# Altium schematic symbol library test-tp_jumper.SchLib: 12 symbols
Pins are listed as number, name and electrical type; pins without a type are passive.

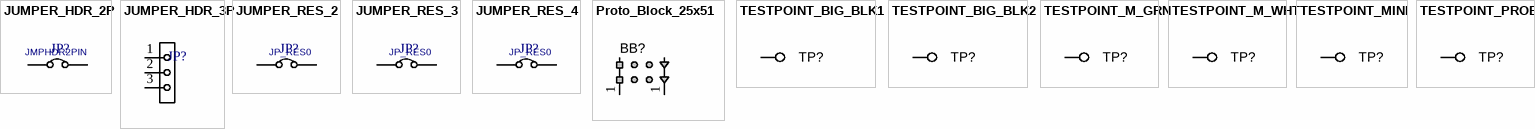
[diagram p0: symbols JUMPER_HDR_2P to TESTPOINT_PROBE]

## JUMPER_HDR_2P
designator JP?, comment JMPHDR2PIN
JUMPER, HEADER 2PIN; MANF: MANF; MANF_P#: MANF_P#; VALUE: JMPHDR2PIN
footprint JP_2 (Jumper Header 2.54mm Pitch, Vertical)
footprint JP_2_BLU (Jumper Header 2.54mm Pitch, Vertical, BLUE)
footprint JP_2_BLK (Jumper Header 2.54mm Pitch, Vertical, BLACK)
footprint JP_2_RED (Jumper Header 2.54mm Pitch, Vertical, RED)
footprint JP_2_GRN (Jumper Header 2.54mm Pitch, Vertical, GREEN)
pins: 1, 2

## JUMPER_HDR_3P
designator JP?, comment JMPHDR3PIN  (value not drawn)
JUMPER, HEADER 3PIN; MANF: MANF; MANF_P#: MANF_P#; VALUE: JMPHDR3PIN
footprint JP_3 (Jumper Header 2.54mm Pitch, 3PIN, Vertical)
pins: 1, 2, 3

## JUMPER_RES_2
designator JP?, comment JP_RES0  (net tie)
JUMPER, RESISTOR 0 Ohm; MANF: MANF; MANF_P#: MANF_P#; VALUE: JP_RES0
footprint JP_RES0_AX2 (JUMPER, RESISTOR 0 Ohm 1/8Watt, Axial 0.24Inch)
pins: 1, 2

## JUMPER_RES_3
designator JP?, comment JP_RES0  (net tie)
JUMPER, RESISTOR 0 Ohm; MANF: MANF; MANF_P#: MANF_P#; VALUE: JP_RES0
footprint JP_RES0_AX3 (JUMPER, RESISTOR 0 Ohm 1/8Watt, Axial0.3Inch)
pins: 1, 2

## JUMPER_RES_4
designator JP?, comment JP_RES0  (net tie)
JUMPER, RESISTOR 0 Ohm; MANF: MANF; MANF_P#: MANF_P#; VALUE: JP_RES0
footprint JP_RES0_AX4 (0 Ohm Jumper Resistor)
pins: 1, 2

## Proto_Block_25x51
designator BB?  (value not drawn)  (no BOM)
MANF: MANF; MANF_P#: MANF_P#; VALUE: VALUE
footprint BreadBoard_25x51 (Small 1"x2" breadboard section)
pins: 1, 1 0

## TESTPOINT_BIG_BLK1
designator TP?  (value not drawn)  (no BOM)
TEST POINT; MANF: MANF; MANF_P#: MANF_P#; VALUE: VALUE
footprint TPTHD_C_BLK1 (Thru-hole test point loop)
pins: 1

## TESTPOINT_BIG_BLK2
designator TP?  (value not drawn)  (no BOM)
TEST POINT; MANF: MANF; MANF_P#: MANF_P#; VALUE: VALUE
footprint TPTHD_C_BLK2 (Thru-hole test point loop)
pins: 1

## TESTPOINT_M_GRN
designator TP?  (value not drawn)  (no BOM)
TEST POINT; MANF: MANF; MANF_P#: MANF_P#; VALUE: VALUE
footprint TPTHD_B_GRN (TEST POINT KEYSTONE 2.5mm WITH 1 mm Hole Diameter)
pins: 1

## TESTPOINT_M_WHT
designator TP?  (value not drawn)  (no BOM)
TEST POINT; MANF: MANF; MANF_P#: MANF_P#; VALUE: VALUE
footprint TPTHD_B_WHT (TEST POINT KEYSTONE 2.5mm WITH 1 mm Hole Diameter)
pins: 1

## TESTPOINT_MINI
designator TP?  (value not drawn)  (no BOM)
TEST POINT; MANF: MANF; MANF_P#: MANF_P#; VALUE: VALUE
footprint TPTHD_A (TEST POINT, SMALLEST SIZE)
pins: 1

## TESTPOINT_PROBE
designator TP?  (value not drawn)  (no BOM)
TEST POINT; MANF: MANF; MANF_P#: MANF_P#; VALUE: VALUE
footprint TP80D50
pins: 1